# EAGLE library part IC_LT1767 (library psas)
LT1767 Step Down Regulator
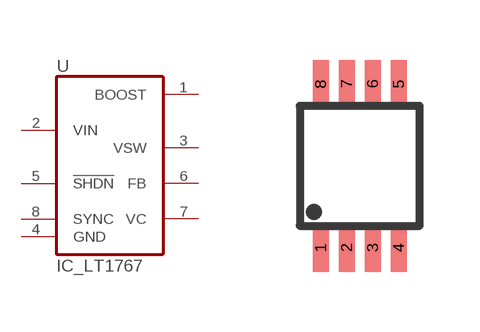
[diagram p9: symbol with the pads of MSOP8; footprint MSOP8]

Designator prefix U

## IC_LT1767EMS8  [MSOP8]
1  BOOST  pas
2  VIN  pas
3  VSW  pas
4  GND  pwr
5  !SHDN  in
6  FB  pas
7  VC  pas
8  SYNC  in

## Footprint MSOP8 (pad centres in mm)
MSOP8
smd 0.4 x 1.2: 1 -0.975,-2.05; 2 -0.325,-2.05; 3 0.325,-2.05; 4 0.975,-2.05; 5 0.975,2.05; 6 0.325,2.05; 7 -0.325,2.05; 8 -0.975,2.05